# EAGLE library part USB-1X-2S (library _con-usb_1)
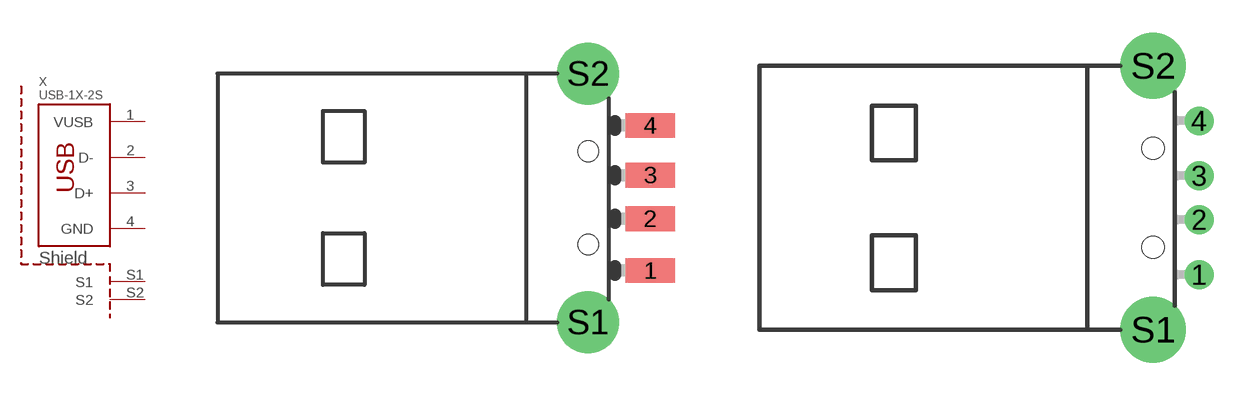
[diagram p0: symbol with the pads of USB-PLUG-A-SMD-2S; footprints USB-PLUG-A-SMD-2S, USB-PLUG-A-THT-2S]

Designator prefix X

## USB-1X-2S-PLUG-A-SMD  [USB-PLUG-A-SMD-2S]
1  VUSB  pas
2  D-  pas
3  D+  pas
4  GND  pas
S1  S1  pas
S2  S2  pas

## USB-1X-2S-PLUG-A-THT  [USB-PLUG-A-THT-2S]
Pads as for USB-PLUG-A-SMD-2S

## USB-1X-2S-JACK-B-SMD  [USB-JACK-B-SMD-2S]
Pads as for USB-PLUG-A-SMD-2S

## Footprint USB-PLUG-A-SMD-2S (pad centres in mm)
smd 2.4 x 1.2: 1 10.9,-3.6; 2 10.9,-1.1; 3 10.9,1; 4 10.9,3.4
drill 2 round: S1 7.9,-6.1; S2 7.9,5.9
hole 1 at 7.9,-2.35
hole 1 at 7.9,2.15

## Footprint USB-PLUG-A-THT-2S (pad centres in mm)
drill 0.8 round: 1 10,-3.6; 2 10,-1.1; 3 10,0.9; 4 10,3.4
drill 2 round: S1 7.9,-6.1; S2 7.9,5.9
hole 1 at 7.9,-2.35
hole 1 at 7.9,2.15

## Footprint USB-JACK-B-SMD-2S (pad centres in mm)
smd 3 x 0.7: 1 0,0; 2 0,2.5; 3 0,3.75; 4 0,1.25
smd 6 x 3.4: S1 -6.4,-4.825; S2 -6.4,8.575
hole 1.4 at -7,4.625
hole 1.4 at -7,-0.875